# EAGLE library part F09HP (library den)
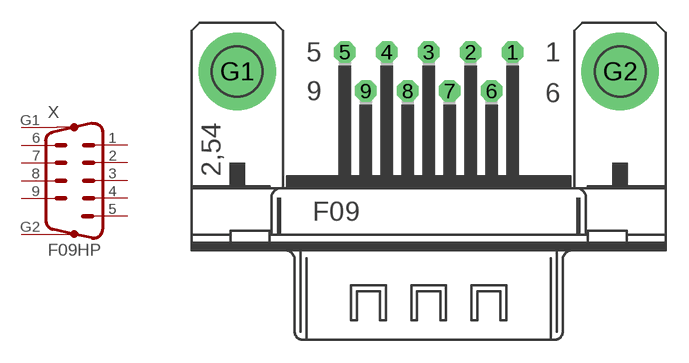
[diagram p20: symbol with the pads of F09HP; footprint F09HP]

Designator prefix X

## F09HP  [F09HP]
1  1  pas
2  2  pas
3  3  pas
4  4  pas
5  5  pas
6  6  pas
7  7  pas
8  8  pas
9  9  pas
G1  G1  pas
G2  G2  pas

## Footprint F09HP (pad centres in mm)
drill 0.8 pad 1.422 octagon: 1 6.756,2.54; 2 4.013,2.54; 3 1.27,2.54; 4 -1.473,2.54; 5 -4.216,2.54; 6 5.385,0; 7 2.642,0; 8 -0.102,0; 9 -2.845,0
drill 3.302 pad 5.08 round: G1 -11.252,1.27; G2 13.792,1.27